# Altium footprint library RadiatorX6.PcbLib: 1 footprints
Each footprint in its own frame and in the unit in brackets; x right, y up, seen from the top. Pads: shape width x height; smd on the part's side, far side on the other; paste and mask are expansions set on the pad; w line width, h text height; cw(c..) or ccw(c..) is an arc to the next point about the centre after c.
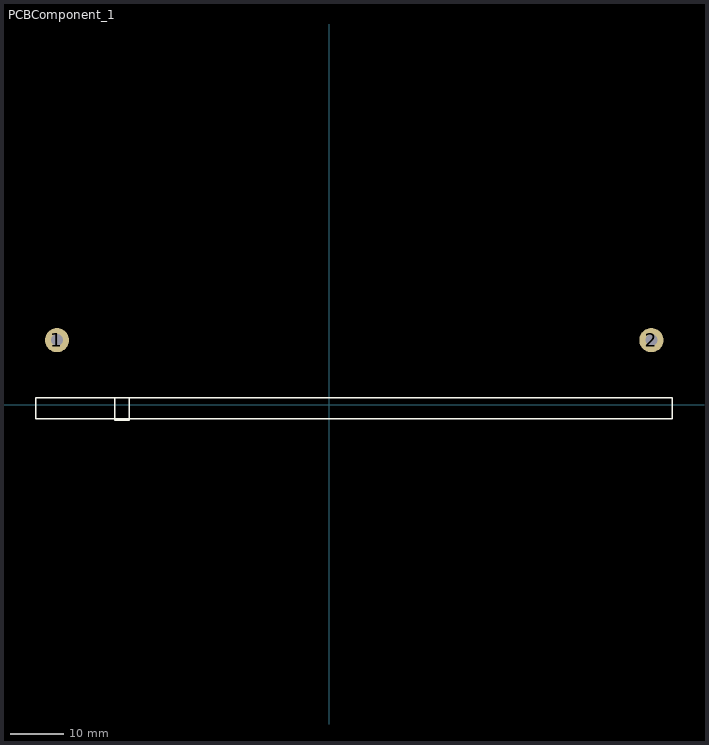
[diagram p0: the footprint, top view; thin cyan lines are the x and y axes]

## PCBComponent_1 [mil]
pads (2):
  round 180 hole 90: 1(-2020,480) 2(2390,480)
Top Overlay:
  lines w10: -2177,-103 2543,-103 2543,54 -2177,54 -2177,-103 ; -1593,-113 -1484,-113 -1484,54 -1593,54 -1593,-113
Bottom Overlay:
  lines w10: -2176,-103 2544,-103 2544,54 -2176,54 -2176,-103
3D body "Радиатор для транзисторофф.STEP": height 1320.55, standoff 21.34, extent -2179,-98.23 2545.41,644.23